# EAGLE library part MC34063-SOIC-8 (library MC34063)
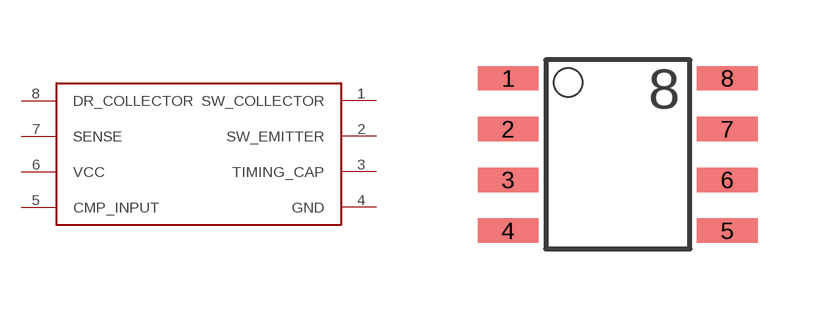
[diagram p0: symbol with the pads of SO-8; footprint SO-8]

Designator prefix -

## MC34063-SOIC-8  [SO-8]
1  SW_COLLECTOR
2  SW_EMITTER
3  TIMING_CAP
4  GND  pwr
5  CMP_INPUT
6  VCC  pwr
7  SENSE
8  DR_COLLECTOR

## Footprint SO-8 (pad centres in mm)
SO 8 small outline
smd 1.524 x 0.61: 1 -2.743,1.27; 2 -2.743,0; 3 -2.743,-1.27; 4 -2.743,-2.54; 5 2.743,-2.54; 6 2.743,-1.27; 7 2.743,0; 8 2.743,1.27